# Altium schematic symbol library 数字电路时钟.SchLib: 13 symbols
Pins are listed as number, name and electrical type; pins without a type are passive.

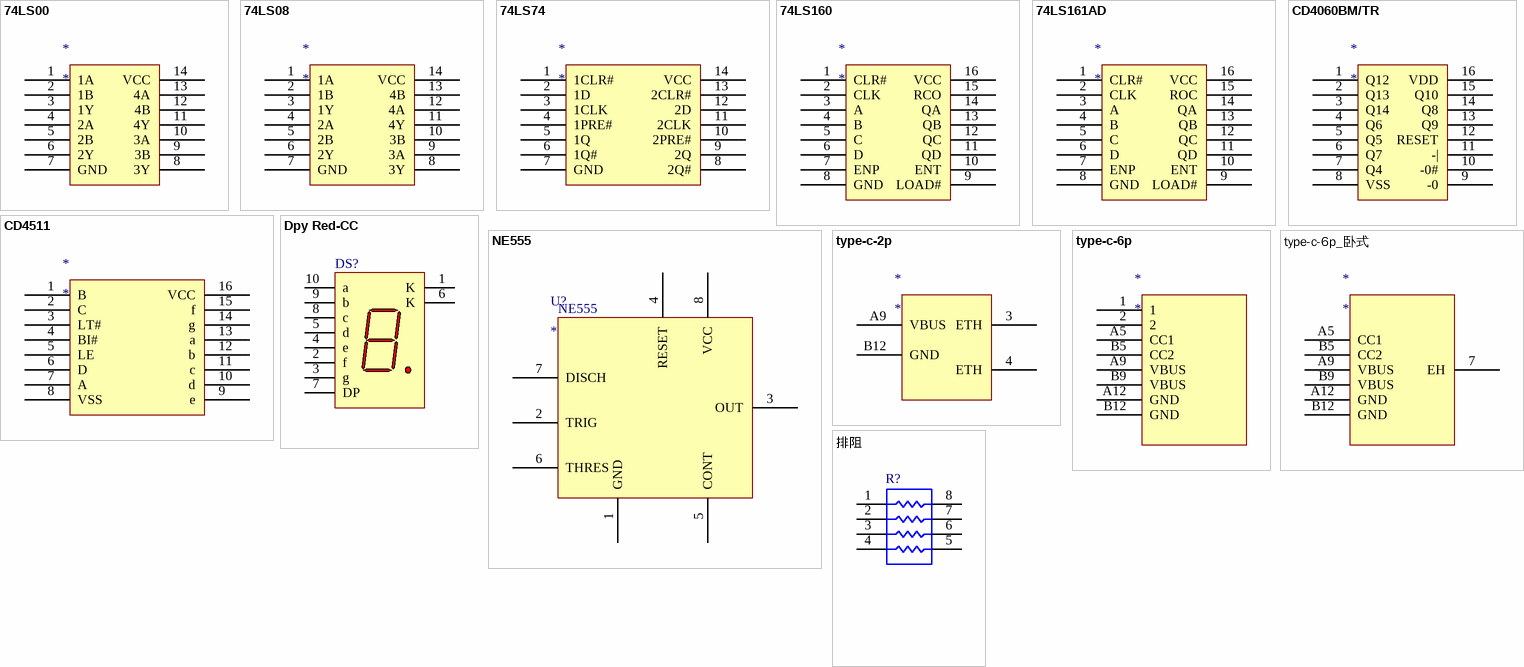
[diagram p0: symbols 74LS00 to 排阻]

## 74LS00
designator *
footprint 74LS00
pins: 1 1A, 2 1B, 3 1Y, 4 2A, 5 2B, 6 2Y, 7 GND, 8 3Y, 9 3B, 10 3A, 11 4Y, 12 4B, 13 4A, 14 VCC

## 74LS08
designator *
footprint 74LS08
pins: 1 1A, 2 1B, 3 1Y, 4 2A, 5 2B, 6 2Y, 7 GND, 8 3Y, 9 3A, 10 3B, 11 4Y, 12 4A, 13 4B, 14 VCC

## 74LS74
designator *
footprint 74LS74
pins: 1 1CLR#, 2 1D, 3 1CLK, 4 1PRE#, 5 1Q, 6 1Q#, 7 GND, 8 2Q#, 9 2Q, 10 2PRE#, 11 2CLK, 12 2D, 13 2CLR#, 14 VCC

## 74LS160
designator *
footprint 74LS160-DIP16
pins: 1 CLR#, 2 CLK, 3 A, 4 B, 5 C, 6 D, 7 ENP, 8 GND, 9 LOAD#, 10 ENT, 11 QD, 12 QC, 13 QB, 14 QA, 15 RCO, 16 VCC

## 74LS161AD
designator *
footprint 74LS161
pins: 1 CLR#, 2 CLK, 3 A, 4 B, 5 C, 6 D, 7 ENP, 8 GND, 9 LOAD#, 10 ENT, 11 QD, 12 QC, 13 QB, 14 QA, 15 ROC, 16 VCC

## CD4060BM/TR
designator *
footprint CD4060BM/TR
pins: 1 Q12, 2 Q13, 3 Q14, 4 Q6, 5 Q5, 6 Q7, 7 Q4, 8 VSS, 9 -0, 10 -0#, 11 -|, 12 RESET, 13 Q9, 14 Q8, 15 Q10, 16 VDD

## CD4511
designator *
footprint CD4511BM/TR
pins: 1 B, 2 C, 3 LT#, 4 BI#, 5 LE, 6 D, 7 A, 8 VSS, 9 e, 10 d, 11 c, 12 b, 13 a, 14 g, 15 f, 16 VCC

## Dpy Red-CC
designator DS?
7.62 mm Black Surface HER 7-Segment Display: CC, RH DP; MinimumIntensity: 360 ucd; Note: IF = 5 mA; Colour: High Efficiency Red (HER); Note: Pins 1 and 6 are redundant Cathodes.; Published: 8-Jun-2000; LatestRevisionDate: 17-Dec-2003; LatestRevisionNote: Schematic revised, PCB Footprint replaced.; DatasheetVersion: 19-Feb-2002; PackageVersion: 11-Feb-2002; PackageReference: A; Publisher: Altium Limited; PackageDescription: LED, 7-Segment Display, 7.62 mm, RHD; 10 Leads; Row Space 5.08 mm; Pitch 2.54 mm; ComponentLink1Description: Manufacturer Link; ComponentLink1URL: http://www.agilent.com/
footprint A (LED, 7-Segment Display, 7.62 mm, RHD; 10 Leads; Row Space 5.08 mm; Pitch 2.54 mm)
simulation model HDSP_A213 (SUBCKT)
pins: 1 K "Cathode", 2 f "Anode", 3 g "Anode", 4 e "Anode", 5 d "Anode", 6 K "Cathode", 7 DP "Anode", 8 c "Anode", 9 b "Anode", 10 a "Anode"

## NE555
designator U?
footprint DIP-8
pins: 1 GND, 2 TRIG, 3 OUT, 4 RESET, 5 CONT, 6 THRES, 7 DISCH, 8 VCC

## type-c-2p
designator *
footprint type-c-2p
pins: 3 ETH, 4 ETH, A9 VBUS, B12 GND

## type-c-6p
designator *
footprint type-c-6p - duplicate
pins: 1, 2, A5 CC1, A9 VBUS, A12 GND, B5 CC2, B9 VBUS, B12 GND

## type-c-6p_卧式
designator *
footprint TYPEC_卧
pins: 7 EH, A5 CC1, A9 VBUS, A12 GND, B5 CC2, B9 VBUS, B12 GND

## 排阻
designator R?
Isolated Resistor Network; Published: 24-Mar-1999; LatestRevisionDate: 29-May-2009; LatestRevisionNote: IPC-7351 Footprint Added.; PackageReference: SO-16; Publisher: Altium Limited; PackageDescription: 16-Pin Small Outline Integrated Circuit 1.27 mm Pitch; Code_JEDEC: MS-012-AC; Code_IPC: SOIC127P600-16
footprint 排阻-SOP8
pins: 1, 2, 3, 4, 5, 6, 7, 8